# Altium schematic symbol library Gesturelink Backplane Schematic Library.SchLib: 12 symbols
Pins are listed as number, name and electrical type; pins without a type are passive.

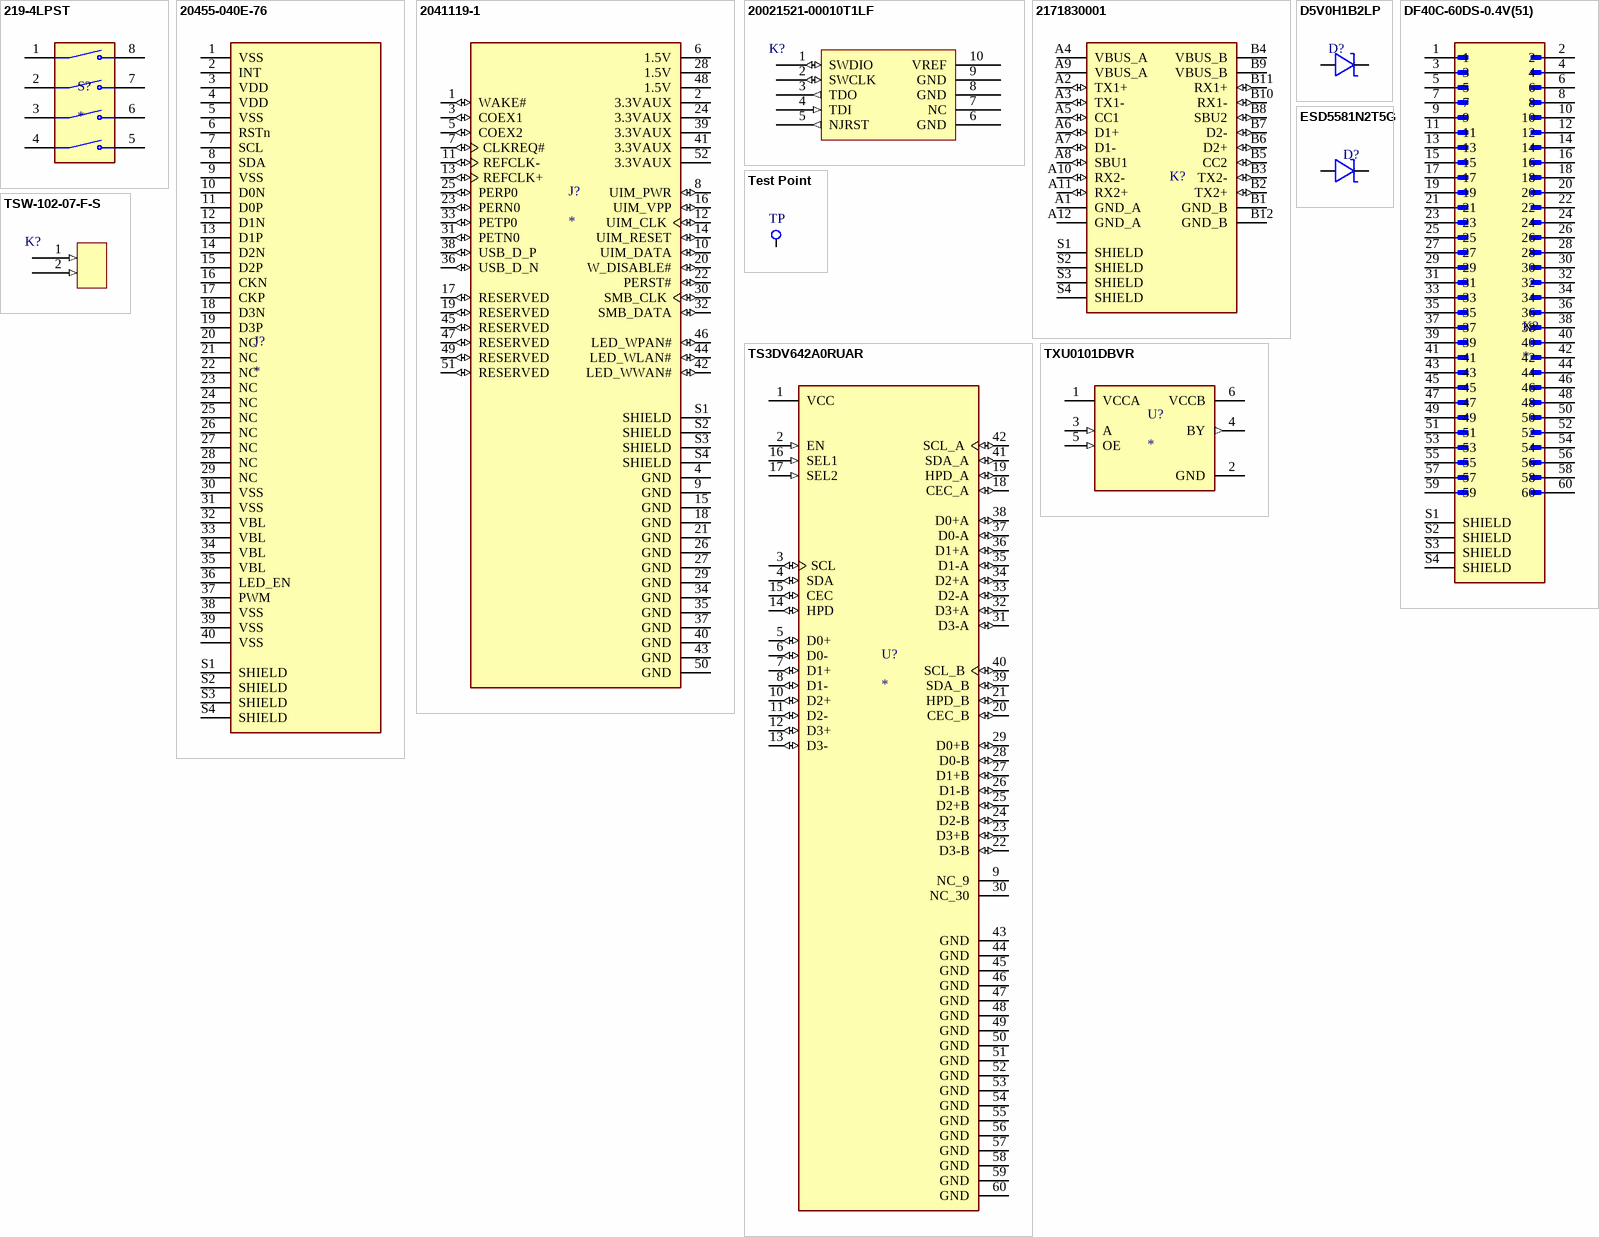
[diagram p0: symbols 219-4LPST to TXU0101DBVR]

## 219-4LPST
designator S?
Dip Switch SPST 4 Position Surface Mount Slide (Standard) Actuator 100mA 20VDC; MF: {'manufacturer': u'CTS Electrocomponents'}; MP: 219-4LPST; Package: None; Price: None; Value: *; Availability: Unavailable
footprint SW_219-4LPST
pins: 1, 2, 3, 4, 5, 6, 7, 8

## 20455-040E-76
designator J?
N/A; MP: 20455-040E-76; Package: None; Price: None; Value: *; Availability: Unavailable
footprint IPEX_20455-040E-76
pins: 1 VSS, 2 INT, 3 VDD, 4 VDD, 5 VSS, 6 RSTn, 7 SCL, 8 SDA, 9 VSS, 10 D0N, 11 D0P, 12 D1N, 13 D1P, 14 D2N, 15 D2P, 16 CKN, 17 CKP, 18 D3N, 19 D3P, 20 NC, 21 NC, 22 NC, 23 NC, 24 NC, 25 NC, 26 NC, 27 NC, 28 NC, 29 NC, 30 VSS, 31 VSS, 32 VBL, 33 VBL, 34 VBL, 35 VBL, 36 LED_EN, 37 PWM, 38 VSS, 39 VSS, 40 VSS, S1 SHIELD, S2 SHIELD, S3 SHIELD, S4 SHIELD

## 2041119-1
designator J?
mSATA/mini PCI-E 4H Type I G/F; MP: 2041119-1; Package: None; Price: None; Availability: Unavailable; Value: *
pins: 1 WAKE# (io), 2 3.3VAUX (power), 3 COEX1 (io), 4 GND (power), 5 COEX2 (io), 6 1.5V (power), 7 CLKREQ# (io), 8 UIM_PWR (io), 9 GND (power), 10 UIM_DATA (io), 11 REFCLK- (io), 12 UIM_CLK (io), 13 REFCLK+ (io), 14 UIM_RESET (io), 15 GND (power), 16 UIM_VPP (io), 17 RESERVED (io), 18 GND (power), 19 RESERVED (io), 20 W_DISABLE# (io), 21 GND (power), 22 PERST# (io), 23 PERN0 (io), 24 3.3VAUX (power), 25 PERP0 (io), 26 GND (power), 27 GND (power), 28 1.5V (power), 29 GND (power), 30 SMB_CLK (io), 31 PETN0 (io), 32 SMB_DATA (io), 33 PETP0 (io), 34 GND (power), 35 GND (power), 36 USB_D_N (io), 37 GND (power), 38 USB_D_P (io), 39 3.3VAUX (power), 40 GND (power), 41 3.3VAUX (power), 42 LED_WWAN# (io), 43 GND (power), 44 LED_WLAN# (io), 45 RESERVED (io), 46 LED_WPAN# (io), 47 RESERVED (io), 48 1.5V (power), 49 RESERVED (io), 50 GND (power), 51 RESERVED (io), 52 3.3VAUX (power), S1 SHIELD (power), S2 SHIELD (power), S3 SHIELD (power), S4 SHIELD (power)

## 20021521-00010T1LF
designator K?  (value not drawn)
Connector Header Surface Mount 10 position 0.050" (1.27mm)
footprint AMPHENOL_20021521-00010T1LF
pins: 1 SWDIO (io), 2 SWCLK (io), 3 TDO (out), 4 TDI (in), 5 NJRST (out), 6 GND (power), 7 NC (power), 8 GND (power), 9 GND (power), 10 VREF (power)

## 2171830001
designator K?  (value not drawn)
USB-C (USB TYPE-C) USB 3.2 Gen 1 (USB 3.1 Gen 1, Superspeed (USB 3.0)) Receptacle Connector 24 Position Through Hole, Right Angle
footprint 217183-0001
pins: A1 GND_A (power), A2 TX1+ (io), A3 TX1- (io), A4 VBUS_A (power), A5 CC1 (io), A6 D1+ (io), A7 D1- (io), A8 SBU1 (io), A9 VBUS_A (power), A10 RX2- (io), A11 RX2+ (io), A12 GND_A (power), B1 GND_B (power), B2 TX2+ (io), B3 TX2- (io), B4 VBUS_B (power), B5 CC2 (io), B6 D2+ (io), B7 D2- (io), B8 SBU2 (io), B9 VBUS_B (power), B10 RX1- (io), B11 RX1+ (io), B12 GND_B (power), S1 SHIELD, S2 SHIELD, S3 SHIELD, S4 SHIELD

## D5V0H1B2LP
designator D?  (value not drawn)
12.5V Clamp 30A (8/20µs) Ipp Tvs Diode Surface Mount X1-DFN1006-2
pins: 1 16, 2 16

## DF40C-60DS-0.4V(51)
designator K?
60 Position Connector Receptacle, Center Strip Contacts Surface Mount Gold
footprint DF40C-60DS-0.4V(51)
pins: 1, 2, 3, 4, 5, 6, 7, 8, 9, 10, 11, 12, 13, 14, 15, 16, 17, 18, 19, 20, 21, 22, 23, 24, 25, 26, 27, 28, 29, 30, 31, 32, 33, 34, 35, 36, 37, 38, 39, 40, 41, 42, 43, 44, 45, 46, 47, 48, 49, 50, 51, 52, 53, 54, 55, 56, 57, 58, 59, 60, S1 SHIELD, S2 SHIELD, S3 SHIELD, S4 SHIELD

## ESD5581N2T5G
designator D?  (value not drawn)
12V Clamp 6A (8/20µs) Ipp Tvs Diode Surface Mount 2-X2DFN (1x0.6)
footprint DIODFN100X60X40-2N
pins: 1 16, 2 16

## Test Point
designator TP  (value not drawn)
footprint Test Point
pins: 12

## TS3DV642A0RUAR
designator U?
Multi-Channel Differential Switch/Multiplexer Targeting DVI/HDMI & DisplayPort Applications 42-WQFN -40 to 85; MF: Texas Instruments; MP: TS3DV642A0RUAR; Texas_Instruments-Purchase-URL: https://snapeda.com/shop?store=Texas+Instruments&id=50654; SnapEDA_Link: https://www.snapeda.com/parts/TS3DV642A0RUAR/Texas%20Instruments/view-part/50654/?ref=snap; Price: None; Availability: Unavailable; Value: *; Package: WQFN-42 Texas Instruments; Check_prices: https://www.snapeda.com/parts/TS3DV642A0RUAR/Texas%20Instruments/view-part/50654/?ref=eda; Supplier 1: DigiKey; Supplier Part Number 1: 296-TS3DV642RUARQ1CT-ND
footprint QFN50P900X350X80-43N
pins: 1 VCC (power), 2 EN (in), 3 SCL (io), 4 SDA (io), 5 D0+ (io), 6 D0- (io), 7 D1+ (io), 8 D1- (io), 9 NC_9, 10 D2+ (io), 11 D2- (io), 12 D3+ (io), 13 D3- (io), 14 HPD (io), 15 CEC (io), 16 SEL1 (in), 17 SEL2 (in), 18 CEC_A (io), 19 HPD_A (io), 20 CEC_B (io), 21 HPD_B (io), 22 D3-B (io), 23 D3+B (io), 24 D2-B (io), 25 D2+B (io), 26 D1-B (io), 27 D1+B (io), 28 D0-B (io), 29 D0+B (io), 30 NC_30, 31 D3-A (io), 32 D3+A (io), 33 D2-A (io), 34 D2+A (io), 35 D1-A (io), 36 D1+A (io), 37 D0-A (io), 38 D0+A (io), 39 SDA_B (io), 40 SCL_B (io), 41 SDA_A (io), 42 SCL_A (io), 43 GND (power), 44 GND (power), 45 GND (power), 46 GND (power), 47 GND (power), 48 GND (power), 49 GND (power), 50 GND (power), 51 GND (power), 52 GND (power), 53 GND (power), 54 GND (power), 55 GND (power), 56 GND (power), 57 GND (power), 58 GND (power), 59 GND (power), 60 GND (power)

## TSW-102-07-F-S
designator K?  (value not drawn)
Connector Header Through Hole 2 position 0.100" (2.54mm)
footprint SAMTEC_TSW-102-07-F-S
pins: 1 (in), 2 (in)

## TXU0101DBVR
designator U?
Voltage Level Translator Unidirectional 1 Circuit 1 Channel 200Mbps SOT-23-6; MF: Texas Instruments; MP: TXU0101DBVR; SnapEDA_Link: https://www.snapeda.com/parts/TXU0101DBVR/Texas+Instruments/view-part/?ref=snap; Package: None; Value: *; Check_prices: https://www.snapeda.com/parts/TXU0101DBVR/Texas+Instruments/view-part/?ref=eda
footprint IC_TXU0101DBVR
pins: 1 VCCA (power), 2 GND (power), 3 A (in), 4 BY (out), 5 OE (in), 6 VCCB (power)